# Altium footprint library HCPL-2232.PCBLIB: 2 footprints
Each footprint in its own frame and in the unit in brackets; x right, y up, seen from the top. Pads: shape width x height; smd on the part's side, far side on the other; paste and mask are expansions set on the pad; w line width, h text height; cw(c..) or ccw(c..) is an arc to the next point about the centre after c.
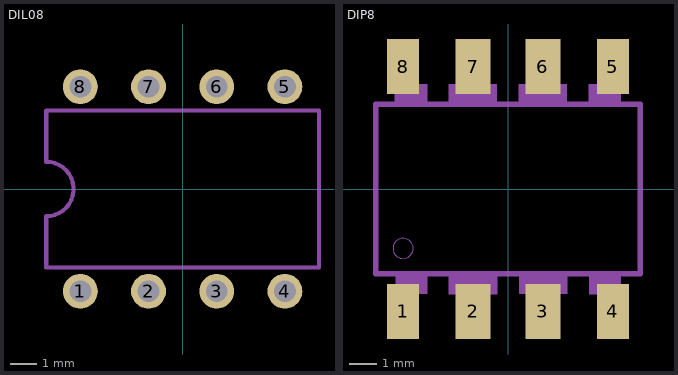
[diagram p0: the footprints below, top view; thin cyan lines are the x and y axes]

## DIL08 [mil]
pads (8):
  round 51.18 hole 32: 1(-150,-150) 2(-50,-150) 3(50,-150) 4(150,-150) 5(150,150) 6(50,150) 7(-50,150) 8(-150,150)
tDocu:
  lines w6: -200,-115 200,-115 ; -200,115 200,115
tPlace:
  lines w6: -200,-115 -200,-40 ccw(c-200,0) -200,40 -200,115 ; 200,-115 200,115

## DIP8 [mm]
pads (8):
  rect 1.16x2 smd: 1(-3.81,-4.45) 4(3.81,-4.45) 5(3.81,4.45) 8(-3.81,4.45)
  rect 1.27x2 smd: 2(-1.27,-4.45) 3(1.27,-4.45) 6(1.27,4.45) 7(-1.27,4.45)
tDocu:
  region: -4.095,-4.831 -4.095,-3.81 -3.53,-3.81 -3.53,-4.831
  region: -1.552,-4.832 -1.552,-3.81 -0.99,-3.81 -0.99,-4.832
  region: 0.991,-4.832 0.991,-3.81 1.55,-3.81 1.55,-4.832
  region: 3.538,-4.835 3.538,-3.81 4.09,-3.81 4.09,-4.835
  region: 3.538,3.818 3.538,4.825 4.09,4.825 4.09,3.818
  region: 0.992,3.816 0.992,4.825 1.55,4.825 1.55,3.816
  region: -1.552,3.816 -1.552,4.825 -0.99,4.825 -0.99,3.816
  region: -4.095,3.815 -4.095,4.825 -3.53,4.825 -3.53,3.815
  region: -0.4,3.81 -0.4,3.11 -2.157,3.11 -2.157,3.81
  region: -2.94,3.81 -2.94,3.105 -4.106,3.105 -4.106,3.81
  region: 2.14,3.81 2.14,3.107 0.391,3.107 0.391,3.81
  region: 4.1,3.81 4.1,3.111 2.941,3.111 2.941,3.81
  region: -4.078,-3.813 -4.078,-3.1 -2.93,-3.1 -2.93,-3.813
  region: -2.144,-3.818 -2.144,-3.1 -0.39,-3.1 -0.39,-3.818
  region: 0.4,-3.813 0.4,-3.1 2.15,-3.1 2.15,-3.813
  region: 2.946,-3.818 2.946,-3.1 4.1,-3.1 4.1,-3.818
  lines w0.203: -4.81,-3.075 4.81,-3.075 ; -4.81,3.075 4.81,3.075
tPlace:
  circle w0: c-3.81,-2.159 r0.367
  lines w0.203: -4.81,-3.075 -4.81,3.075 ; 4.81,-3.075 4.81,3.075